# EAGLE library part XFMR_LL1690 (library wheat)
Transformer, line in Lundahl LL1690
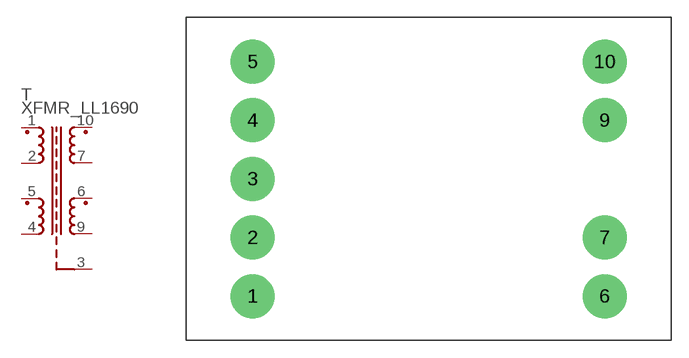
[diagram p132: symbol with the pads of LL1690; footprint LL1690]

Designator prefix T

## XFMR_LL1690  [LL1690]
1  1  pas
2  2  pas
3  3  pas
4  4  pas
5  5  pas
6  6  pas
7  7  pas
9  9  pas
10  10  pas

## Footprint LL1690 (pad centres in mm)
Input transformer, Lundahl LL1690
drill 1.676 pad 3.81: 1 -15.24,-10.16; 2 -15.24,-5.08; 3 -15.24,0; 4 -15.24,5.08; 5 -15.24,10.16; 6 15.24,-10.16; 7 15.24,-5.08; 9 15.24,5.08; 10 15.24,10.16